# EAGLE library part NRF5340-QKAA (library nrf5340_qkaa)
Multi-protocol Bluetooth Low Energy, IEEE 802.15.4, ANT and 2.4GHz proprietary system-on-chip
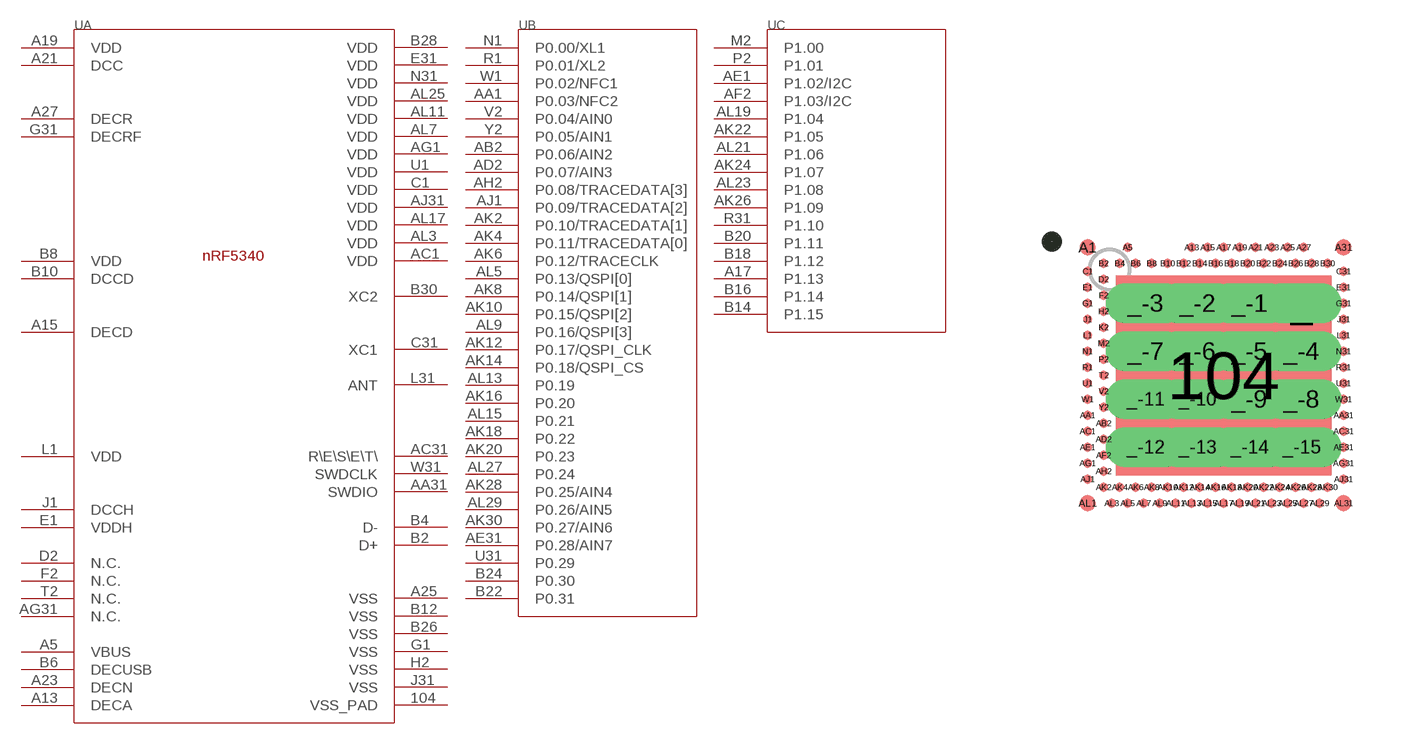
[diagram p0: symbol with the pads of AQFN40P700X700X85_HS-99N; footprint AQFN40P700X700X85_HS-99N]

Designator prefix U; gates A=NRF5340-QKAA_A B=NRF5340-QKAA_B C=NRF5340-QKAA_C

## NRF5340-QKAANRF5340-QKAA_AQFN40P700X700X85_HS-99N (COMPONENT_CLASS: nRF_Devices; FOOTPRINT_DOC: AQFN-98; PAD_COUNT: 98; PART_NUMBER: nRF5340-QKAA; VALUE: nRF5340-QKAA)  [AQFN40P700X700X85_HS-99N]
104  A:VSS_PAD  pwr
A5  A:VBUS  pwr
A13  A:DECA  pwr
A15  A:DECD  pwr
A17  C:P1.13
A19  A:VDD  pwr
A21  A:DCC  out
A23  A:DECN  pwr
A25  A:VSS  pwr
A27  A:DECR  pwr
AA1  B:P0.03/NFC2
AA31  A:SWDIO
AB2  B:P0.06/AIN2
AC1  A:VDD  pwr
AC31  A:R\E\S\E\T\  in
AD2  B:P0.07/AIN3
AE1  C:P1.02/I2C
AE31  B:P0.28/AIN7
AF2  C:P1.03/I2C
AG1  A:VDD  pwr
AG31  A:N.C.  pas
AH2  B:P0.08/TRACEDATA[3]
AJ1  B:P0.09/TRACEDATA[2]
AJ31  A:VDD  pwr
AK2  B:P0.10/TRACEDATA[1]
AK4  B:P0.11/TRACEDATA[0]
AK6  B:P0.12/TRACECLK
AK8  B:P0.14/QSPI[1]
AK10  B:P0.15/QSPI[2]
AK12  B:P0.17/QSPI_CLK
AK14  B:P0.18/QSPI_CS
AK16  B:P0.20
AK18  B:P0.22
AK20  B:P0.23
AK22  C:P1.05
AK24  C:P1.07
AK26  C:P1.09
AK28  B:P0.25/AIN4
AK30  B:P0.27/AIN6
AL3  A:VDD  pwr
AL5  B:P0.13/QSPI[0]
AL7  A:VDD  pwr
AL9  B:P0.16/QSPI[3]
AL11  A:VDD  pwr
AL13  B:P0.19
AL15  B:P0.21
AL17  A:VDD  pwr
AL19  C:P1.04
AL21  C:P1.06
AL23  C:P1.08
AL25  A:VDD  pwr
AL27  B:P0.24
AL29  B:P0.26/AIN5
B2  A:D+
B4  A:D-
B6  A:DECUSB  pwr
B8  A:VDD  pwr
B10  A:DCCD  pwr
B12  A:VSS  pwr
B14  C:P1.15
B16  C:P1.14
B18  C:P1.12
B20  C:P1.11
B22  B:P0.31
B24  B:P0.30
B26  A:VSS  pwr
B28  A:VDD  pwr
B30  A:XC2  out
C1  A:VDD  pwr
C31  A:XC1  in
D2  A:N.C.  pas
E1  A:VDDH  pwr
E31  A:VDD  pwr
F2  A:N.C.  pas
G1  A:VSS  pwr
G31  A:DECRF  pwr
H2  A:VSS  pwr
J1  A:DCCH  pwr
J31  A:VSS  pwr
L1  A:VDD  pwr
L31  A:ANT
M2  C:P1.00
N1  B:P0.00/XL1
N31  A:VDD  pwr
P2  C:P1.01
R1  B:P0.01/XL2
R31  C:P1.10
T2  A:N.C.  pas
U1  A:VDD  pwr
U31  B:P0.29
V2  B:P0.04/AIN0
W1  B:P0.02/NFC1
W31  A:SWDCLK  in
Y2  B:P0.05/AIN1

## Footprint AQFN40P700X700X85_HS-99N (pad centres in mm)
smd 5.4 x 5: 104 0.2,0
drill 0 pad 1 long: _ 2.15,1.8; _-1 0.85,1.8; _-2 -0.45,1.8; _-3 -1.75,1.8; _-4 2.15,0.6; _-5 0.85,0.6; _-6 -0.45,0.6; _-7 -1.75,0.6; _-8 2.15,-0.6; _-9 0.85,-0.6; _-10 -0.45,-0.6; _-11 -1.75,-0.6; _-12 -1.75,-1.8; _-13 -0.45,-1.8; _-14 0.85,-1.8; _-15 2.15,-1.8
smd 0.4 x 0.4: A1 -3.2,3.2; A31 3.2,3.2; AL1 -3.2,-3.2; AL31 3.2,-3.2
smd 0.225 x 0.225: A5 -2.2,3.2; A13 -0.6,3.2; A15 -0.2,3.2; A17 0.2,3.2; A19 0.6,3.2; A21 1,3.2; A23 1.4,3.2; A25 1.8,3.2; A27 2.2,3.2; AA1 -3.2,-1; AA31 3.2,-1; AB2 -2.8,-1.2; AC1 -3.2,-1.4; AC31 3.2,-1.4; AD2 -2.8,-1.6; AE1 -3.2,-1.8; AE31 3.2,-1.8; AF2 -2.8,-2; AG1 -3.2,-2.2; AG31 3.2,-2.2; AH2 -2.8,-2.4; AJ1 -3.2,-2.6; AJ31 3.2,-2.6; AK2 -2.8,-2.8; AK4 -2.4,-2.8; AK6 -2,-2.8; AK8 -1.6,-2.8; AK10 -1.2,-2.8; AK12 -0.8,-2.8; AK14 -0.4,-2.8; AK16 0,-2.8; AK18 0.4,-2.8; AK20 0.8,-2.8; AK22 1.2,-2.8; AK24 1.6,-2.8; AK26 2,-2.8; AK28 2.4,-2.8; AK30 2.8,-2.8; AL3 -2.6,-3.2; AL5 -2.2,-3.2; AL7 -1.8,-3.2; AL9 -1.4,-3.2; AL11 -1,-3.2; AL13 -0.6,-3.2; AL15 -0.2,-3.2; AL17 0.2,-3.2; AL19 0.6,-3.2; AL21 1,-3.2; AL23 1.4,-3.2; AL25 1.8,-3.2; AL27 2.2,-3.2; AL29 2.6,-3.2; B2 -2.8,2.8; B4 -2.4,2.8; B6 -2,2.8; B8 -1.6,2.8; B10 -1.2,2.8; B12 -0.8,2.8; B14 -0.4,2.8; B16 0,2.8; B18 0.4,2.8; B20 0.8,2.8; B22 1.2,2.8; B24 1.6,2.8; B26 2,2.8; B28 2.4,2.8; B30 2.8,2.8; C1 -3.2,2.6; C31 3.2,2.6; D2 -2.8,2.4; E1 -3.2,2.2; E31 3.2,2.2; F2 -2.8,2; G1 -3.2,1.8; G31 3.2,1.8; H2 -2.8,1.6; J1 -3.2,1.4; J31 3.2,1.4; K2 -2.8,1.2; L1 -3.2,1; L31 3.2,1; M2 -2.8,0.8; N1 -3.2,0.6; N31 3.2,0.6; P2 -2.8,0.4; R1 -3.2,0.2; R31 3.2,0.2; T2 -2.8,0; U1 -3.2,-0.2; U31 3.2,-0.2; V2 -2.8,-0.4; W1 -3.2,-0.6; W31 3.2,-0.6; Y2 -2.8,-0.8